# Altium footprint library RFM0505S.PcbLib: 1 footprints
Each footprint in its own frame and in the unit in brackets; x right, y up, seen from the top. Pads: shape width x height; smd on the part's side, far side on the other; paste and mask are expansions set on the pad; w line width, h text height; cw(c..) or ccw(c..) is an arc to the next point about the centre after c.
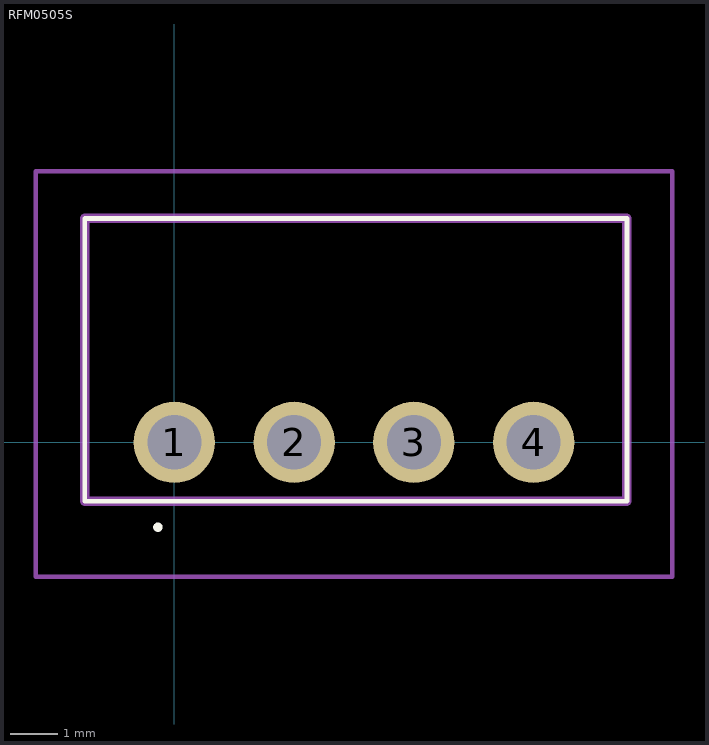
[diagram p0: the footprint, top view; thin cyan lines are the x and y axes]

## RFM0505S [mm]
pads (4):
  round 1.725 hole 1.15: 1(0,0) 2(2.54,0) 3(5.08,0) 4(7.62,0)
Top Overlay:
  lines w0.1: -0.4,-1.8 -0.4,-1.8 ; -0.4,-1.8 ccw(c-0.35,-1.8) -0.3,-1.8 ; -0.4,-1.8 cw(c-0.35,-1.8) -0.3,-1.8 ; -0.3,-1.8 -0.3,-1.8 ; -1.9,-1.25 9.6,-1.25 9.6,4.75 -1.9,4.75 -1.9,-1.25
Mechanical 15:
  lines w0.2: -1.9,-1.25 9.6,-1.25 9.6,4.75 -1.9,4.75 -1.9,-1.25
Mechanical 20:
  lines w0.1: -2.94,-2.85 10.56,-2.85 10.56,5.75 -2.94,5.75 -2.94,-2.85